# Altium schematic symbol library Project_Vega.SchLib: 14 symbols
Pins are listed as number, name and electrical type; pins without a type are passive.

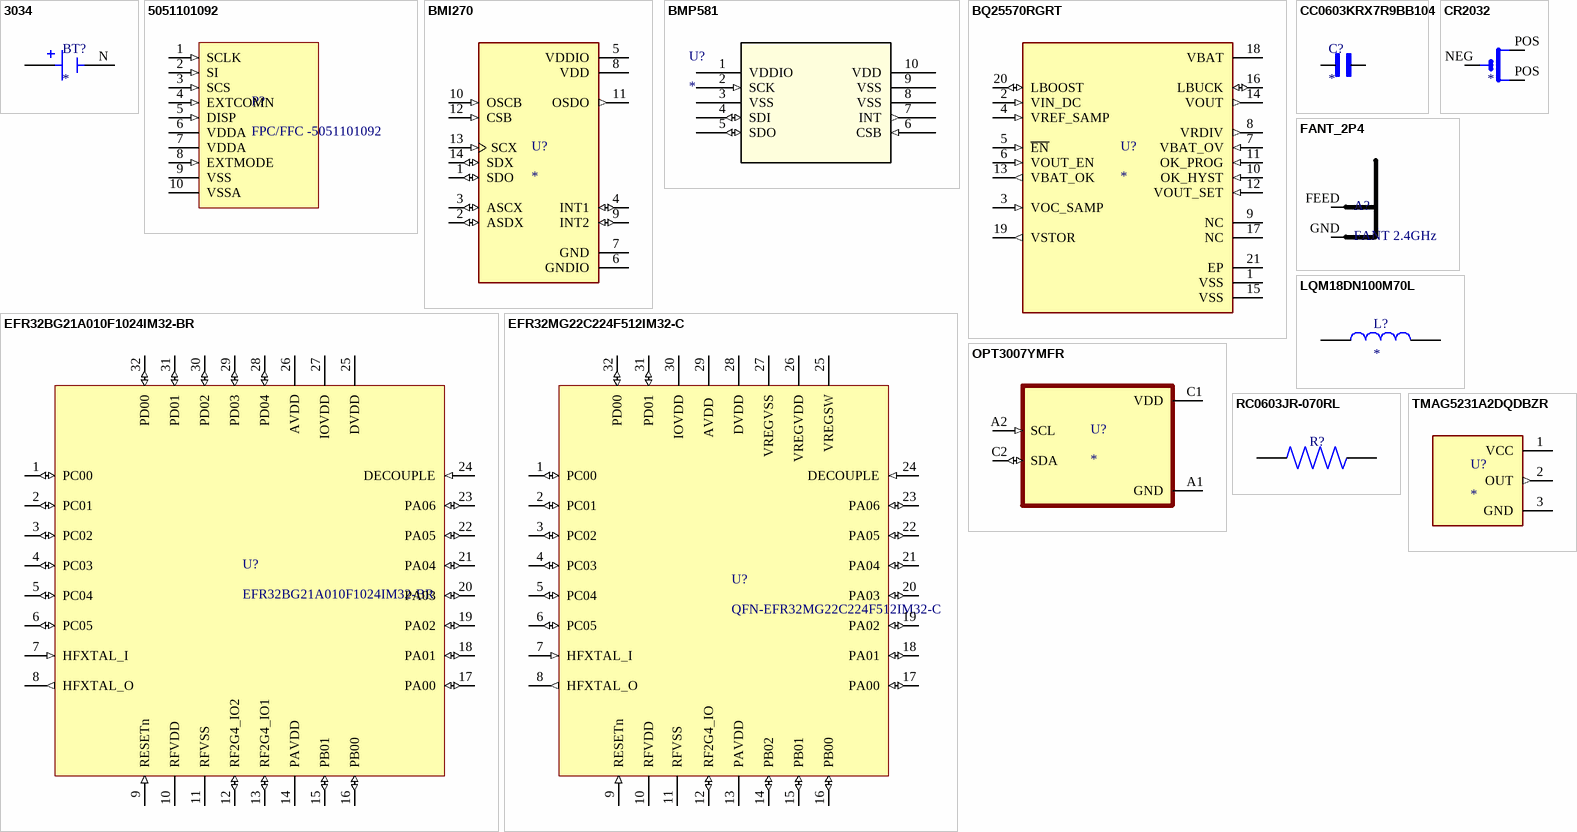
[diagram p0: symbols 3034 to TMAG5231A2DQDBZR]

## 3034
designator BT?
SMT Holder for 20mm Cell-Tin Nickel Plate; MP: 3034; MF: Keystone Electronics Corp.; SnapEDA_Link: https://www.snapeda.com/parts/3034/Keystone+Electronics/view-part/?ref=snap; Price: None; Check_prices: https://www.snapeda.com/parts/3034/Keystone+Electronics/view-part/?ref=eda; Availability: Not in stock; Value: *; Package: None
footprint BAT_3034
pins: N NEG, P1 POS, P2 POS

## 5051101092
designator P?, comment FPC/FFC -5051101092
10 Position FFC, FPC Connector Contacts, Bottom 0.020" (0.50mm) Surface Mount, Right Angle
footprint CON_5051101092_MOL
pins: 1 SCLK (in) "Serial clock signal", 2 SI (in) "Serial input signal", 3 SCS (in) "Chip select signal", 4 EXTCOMN (in) "External COM inversion signal input (H: Active)", 5 DISP (in) "Display ON/OFF signal", 6 VDDA (power) "Analog power supply", 7 VDDA (power) "Digital power supply", 8 EXTMODE (in) "COM inversion mode switch terminal", 9 VSS (power) "Logic GND", 10 VSSA (power) "Analog GND"

## BMI270
designator U?
Accelerometer, Gyroscope, 6 Axis Sensor IÂ²C, SPI Output; MP: BMI270; MF: Bosch Sensortec; Digi-Key_Part_Number: 828-1091-2-ND; Check_prices: https://www.snapeda.com/parts/BMI270/Bosch+Sensortec/view-part/?ref=eda; Package: LGA-14 Bosch Sensortec; SnapEDA_Link: https://www.snapeda.com/parts/BMI270/Bosch+Sensortec/view-part/?ref=snap; Value: *; Purchase-URL: https://pricing.snapeda.com/search/part/BMI270/?ref=eda
footprint XDCR_BMI270
pins: 1 SDO (io), 2 ASDX (io), 3 ASCX (io), 4 INT1 (io), 5 VDDIO (power), 6 GNDIO (power), 7 GND (power), 8 VDD (power), 9 INT2 (io), 10 OSCB (in), 11 OSDO (out), 12 CSB (in), 13 SCX (in), 14 SDX (io)

## BMP581
designator U?
No Description Available; Mfr_Name: Bosch Sensortec; RefDes: RefDes; Type: Type
footprint QFN10_BMP581_BOS-M
pins: 1 VDDIO (power), 2 SCK (in), 3 VSS (power), 4 SDI (io), 5 SDO (io), 6 CSB (in), 7 INT (out), 8 VSS (power), 9 VSS (power), 10 VDD (power)

## BQ25570RGRT
designator U?
Ultra Low power Harvester power Management IC with boost charger, and Nanopower Buck Converter 20-VQFN -40 to 125; MP: BQ25570RGRT; MF: Texas Instruments; Availability: Warning; SnapEDA_Link: https://www.snapeda.com/parts/BQ25570RGRT/Texas%20Instruments/view-part/49255/?ref=snap; Value: *; Price: None; Package: VQFN-20 Texas Instruments; Purchase-URL: https://pricing.snapeda.com/search/part/BQ25570RGRT/?ref=eda; Check_prices: https://www.snapeda.com/parts/BQ25570RGRT/Texas%20Instruments/view-part/49255/?ref=eda
footprint QFN50P350X350X100-21N
pins: 1 VSS (power), 2 VIN_DC (in), 3 VOC_SAMP (in), 4 VREF_SAMP (in), 5 ~{EN} (in), 6 VOUT_EN (in), 7 VBAT_OV (in), 8 VRDIV (out), 9 NC, 10 OK_HYST (in), 11 OK_PROG (in), 12 VOUT_SET (in), 13 VBAT_OK (out), 14 VOUT (out), 15 VSS (power), 16 LBUCK (io), 17 NC, 18 VBAT (power), 19 VSTOR (out), 20 LBOOST (io), 21 EP

## CC0603KRX7R9BB104
designator C?
0.1 ÂµF Â±10% 50V Ceramic Capacitor X7R 0603 (1608 Metric); MF: Yageo; MP: CC0603KRX7R9BB104; SnapEDA_Link: https://www.snapeda.com/parts/CC0603KRX7R9BB104/Yageo/view-part/?ref=snap; Package: 0603 Yageo; Value: *; Check_prices: https://www.snapeda.com/parts/CC0603KRX7R9BB104/Yageo/view-part/?ref=eda
footprint CAPC1608X90
pins: 1, 2

## CR2032
designator ?
Coin, 20.0mm Lithium Manganese Dioxide 3V Battery Non-Rechargeable _Primary_; MF: FDK America,; MP: CR2032; Availability: Unavailable; Price: None; Package: FDK; Value: *; SnapEDA_Link: https://www.snapeda.com/parts/CR2032/FDK%20America%2C%20Inc.%2C%20a%20member%20of%20Fujitsu%20Group/view-part/1775317/?ref=snap
footprint CR2032-SMD
footprint CR2032-THRU
pins: NEG, POS, POS

## EFR32BG21A010F1024IM32-BR
designator U?
Blue Gecko, QFN32, 2.4G, 10dB, Bluetooth 5.1, 1024kB, 96kB(RAM), 20 GPIO; Manufacturer: Silicon Labs; Supplier: Digikey; Supplier Part Number: 336-5869-1-ND; Manufacturer Part Number: EFR32BG21A010F1024IM32-BR; RoHS: No; Category: RF Receivers, Transceivers; Stock: 38892; Pricing: 1=4.27, 10=3.816, 25=3.4348, 100=3.1293, 250=2.82404, 500=2.6875 (USD); ComponentLink1URL: https://www.silabs.com/documents/login/data-sheets/efr32bg21-datasheet.pdf?src-supplier=Digikey; ComponentLink1Description: https://www.silabs.com/documents/login/data-sheets/efr32bg21-datasheet.pdf?src-supplier=Digikey; ComponentLink2URL: https://datasheet.octopart.com/EFR32BG21A010F1024IM32-BR-Silicon-Labs-datasheet-142046433.pdf?src-supplier=Arrow.cn; ComponentLink2Description: https://datasheet.octopart.com/EFR32BG21A010F1024IM32-BR-Silicon-Labs-datasheet-142046433.pdf?src-supplier=Arrow.cn
footprint QFN32-EFR32xG2xIM32-BR (QFN, 32-Leads, Body 4.00x4.00mm, Pitch 0.40mm, Thermal Pad 2.80x2.80mm, IPC Medium Density)
pins: 1 PC00 (io) "GPIO", 2 PC01 (io) "GPIO", 3 PC02 (io) "GPIO", 4 PC03 (io) "GPIO", 5 PC04 (io) "GPIO", 6 PC05 (io) "GPIO", 7 HFXTAL_I (in) "High Frequency Crystal Input", 8 HFXTAL_O (out) "High Frequency Crystal Output", 9 RESETn (in) "Reset Pin", 10 RFVDD (power) "Radio power supply", 11 RFVSS (power) "Radio Ground", 12 RF2G4_IO2 (io) "2.4 GHz RF input/output", 13 RF2G4_IO1 (io) "2.4 GHz RF input/output", 14 PAVDD (power) "Power Amplifier (PA) power supply", 15 PB01 (io) "GPIO", 16 PB00 (io) "GPIO", 17 PA00 (io) "GPIO", 18 PA01 (io) "GPIO", 19 PA02 (io) "GPIO", 20 PA03 (io) "GPIO", 21 PA04 (io) "GPIO", 22 PA05 (io) "GPIO", 23 PA06 (io) "GPIO", 24 DECOUPLE (in) "Decouple output for on-chip voltage regulator. An external decoupling capacitor is required at this pin.", 25 DVDD (power) "Digital power supply", 26 AVDD (power) "Analog power supply", 27 IOVDD (power) "Digital IO power supply", 28 PD04 (io) "GPIO", 29 PD03 (io) "GPIO", 30 PD02 (io) "GPIO", 31 PD01 (io) "GPIO", 32 PD00 (io) "GPIO"

## EFR32MG22C224F512IM32-C
designator U?, comment QFN-EFR32MG22C224F512IM32-C
IC RF TxRx + MCU WiFi Bluetooth v5.2, Zigbee® 2.4GHz 32-VFQFN Exposed Pad
footprint QFN32-EFR32xG2xIM32-BR (QFN, 32-Leads, Body 4.00x4.00mm, Pitch 0.40mm, Thermal Pad 2.80x2.80mm, IPC Medium Density)
pins: 1 PC00 (io) "GPIO", 2 PC01 (io) "GPIO", 3 PC02 (io) "GPIO", 4 PC03 (io) "GPIO", 5 PC04 (io) "GPIO", 6 PC05 (io) "GPIO", 7 HFXTAL_I (in) "High Frequency Crystal Input", 8 HFXTAL_O (out) "High Frequency Crystal Output", 9 RESETn (in) "Reset Pin", 10 RFVDD (power) "Radio power supply", 11 RFVSS (power) "Radio Ground", 12 RF2G4_IO (io) "2.4 GHz RF input/output", 13 PAVDD (power) "Power Amplifier (PA) power supply", 14 PB02 (io) "GPIO", 15 PB01 (io) "GPIO", 16 PB00 (io) "GPIO", 17 PA00 (io) "GPIO", 18 PA01 (io) "GPIO", 19 PA02 (io) "GPIO", 20 PA03 (io) "GPIO", 21 PA04 (io) "GPIO", 22 PA05 (io) "GPIO", 23 PA06 (io) "GPIO", 24 DECOUPLE (in) "Decouple output for on-chip voltage regulator. An external decoupling capacitor is required at this pin.", 25 VREGSW (power) "DCDC regulator input supply", 26 VREGVDD (power) "Analog power supply", 27 VREGVSS (power) "DCDC ground", 28 DVDD (power) "Digital power supply", 29 AVDD  (power) "Analog power supply", 30 IOVDD (power) "I/O power supply", 31 PD01 (io) "GPIO", 32 PD00 (io) "GPIO"

## FANT_2P4
designator A?, comment FANT 2.4GHz
Inverted F antenna
footprint FANT_2P4
pins: FEED 6, GND 6

## LQM18DN100M70L
designator L?
Inductor with Inductance 10uH Tol.+/-20% Package 0603 (1608); MP: LQM18DN100M70L; MF: Murata Electronics; Price: None; SnapEDA_Link: https://www.snapeda.com/parts/LQM18DN100M70L/Murata/view-part/4834755/?ref=snap; Package: 0603 Murata; Availability: Unavailable; Value: *
footprint INDC1608X95N
pins: 1, 2

## OPT3007YMFR
designator U?
Ultra-thin ambient light sensor (ALS) with fixed I2C address 6-PICOSTAR -40 to 85; MP: OPT3007YMFR; MF: Texas Instruments; Value: *; Package: PICOSTAR-6 Texas Instruments; Check_prices: https://www.snapeda.com/parts/OPT3007YMFR/Texas+Instruments/view-part/?ref=eda; Price: None; Purchase-URL: https://pricing.snapeda.com/search/part/OPT3007YMFR/?ref=eda; SnapEDA_Link: https://www.snapeda.com/parts/OPT3007YMFR/Texas+Instruments/view-part/?ref=snap; Availability: In Stock
footprint BGA6N60X35P2X3_85X94X22N
pins: A1 GND (power), A2 SCL (in), C1 VDD (power), C2 SDA (io)

## RC0603JR-070RL
designator R?  (value not drawn)
Thick film general purpose; MP: RC0603JR-070RL; Availability: Unavailable; Package: None; Value: *; Price: None
footprint RESC1607X60N
pins: 1, 2

## TMAG5231A2DQDBZR
designator U?
SOT-23-3-Digital Switch Omnipolar Switch Push-Pull Hall Effect; MF: {'manufacturer': u'Texas Instruments'}; MP: TMAG5231A2DQDBZR; Package: None; Price: None; Value: *; Availability: Unavailable
footprint SOT95P237X112-3N
pins: 1 VCC (power), 2 OUT (out), 3 GND (power)